# EAGLE library part STM32F302XC (library darknet_parts_library)
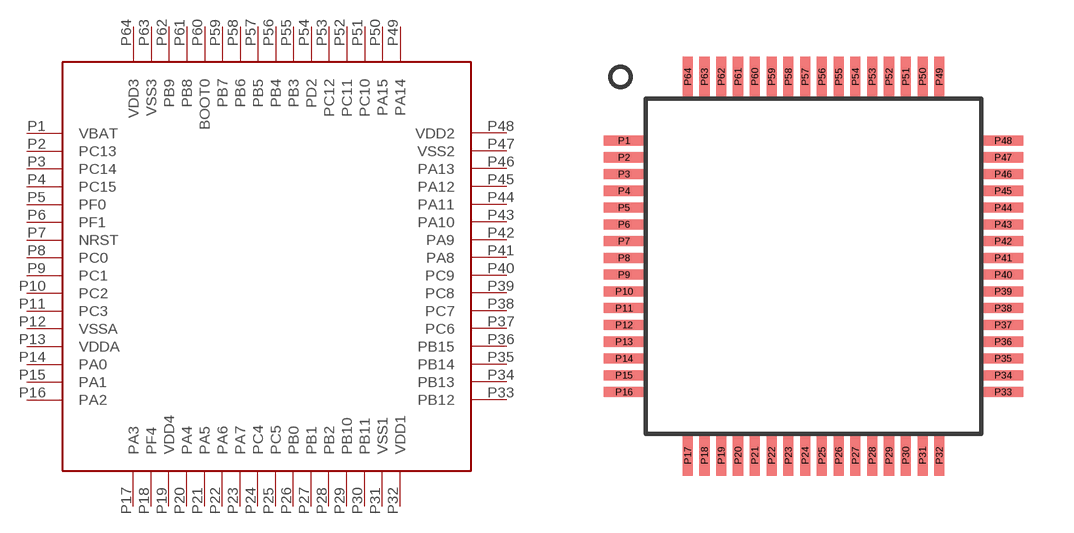
[diagram p2: symbol with the pads of LQFP64; footprint LQFP64]

Designator prefix -

## STM32F302XC  [LQFP64]
P1  VBAT
P2  PC13
P3  PC14
P4  PC15
P5  PF0
P6  PF1
P7  NRST
P8  PC0
P9  PC1
P10  PC2
P11  PC3
P12  VSSA
P13  VDDA
P14  PA0
P15  PA1
P16  PA2
P17  PA3
P18  PF4
P19  VDD4
P20  PA4
P21  PA5
P22  PA6
P23  PA7
P24  PC4
P25  PC5
P26  PB0
P27  PB1
P28  PB2
P29  PB10
P30  PB11
P31  VSS1
P32  VDD1
P33  PB12
P34  PB13
P35  PB14
P36  PB15
P37  PC6
P38  PC7
P39  PC8
P40  PC9
P41  PA8
P42  PA9
P43  PA10
P44  PA11
P45  PA12
P46  PA13
P47  VSS2
P48  VDD2
P49  PA14
P50  PA15
P51  PC10
P52  PC11
P53  PC12
P54  PD2
P55  PB3
P56  PB4
P57  PB5
P58  PB6
P59  PB7
P60  BOOT0
P61  PB8
P62  PB9
P63  VSS3
P64  VDD3

## Footprint LQFP64 (pad centres in mm)
smd 1.2 x 0.3: P1 -5.65,3.75; P2 -5.65,3.25; P3 -5.65,2.75; P4 -5.65,2.25; P5 -5.65,1.75; P6 -5.65,1.25; P7 -5.65,0.75; P8 -5.65,0.25; P9 -5.65,-0.25; P10 -5.65,-0.75; P11 -5.65,-1.25; P12 -5.65,-1.75; P13 -5.65,-2.25; P14 -5.65,-2.75; P15 -5.65,-3.25; P16 -5.65,-3.75; P33 5.65,-3.75; P34 5.65,-3.25; P35 5.65,-2.75; P36 5.65,-2.25; P37 5.65,-1.75; P38 5.65,-1.25; P39 5.65,-0.75; P40 5.65,-0.25; P41 5.65,0.25; P42 5.65,0.75; P43 5.65,1.25; P44 5.65,1.75; P45 5.65,2.25; P46 5.65,2.75; P47 5.65,3.25; P48 5.65,3.75
smd 0.3 x 1.2: P17 -3.75,-5.65; P18 -3.25,-5.65; P19 -2.75,-5.65; P20 -2.25,-5.65; P21 -1.75,-5.65; P22 -1.25,-5.65; P23 -0.75,-5.65; P24 -0.25,-5.65; P25 0.25,-5.65; P26 0.75,-5.65; P27 1.25,-5.65; P28 1.75,-5.65; P29 2.25,-5.65; P30 2.75,-5.65; P31 3.25,-5.65; P32 3.75,-5.65; P49 3.75,5.65; P50 3.25,5.65; P51 2.75,5.65; P52 2.25,5.65; P53 1.75,5.65; P54 1.25,5.65; P55 0.75,5.65; P56 0.25,5.65; P57 -0.25,5.65; P58 -0.75,5.65; P59 -1.25,5.65; P60 -1.75,5.65; P61 -2.25,5.65; P62 -2.75,5.65; P63 -3.25,5.65; P64 -3.75,5.65